# Altium footprint library 10132798-012100LF.PcbLib: 1 footprints
Each footprint in its own frame and in the unit in brackets; x right, y up, seen from the top. Pads: shape width x height; smd on the part's side, far side on the other; paste and mask are expansions set on the pad; w line width, h text height; cw(c..) or ccw(c..) is an arc to the next point about the centre after c.
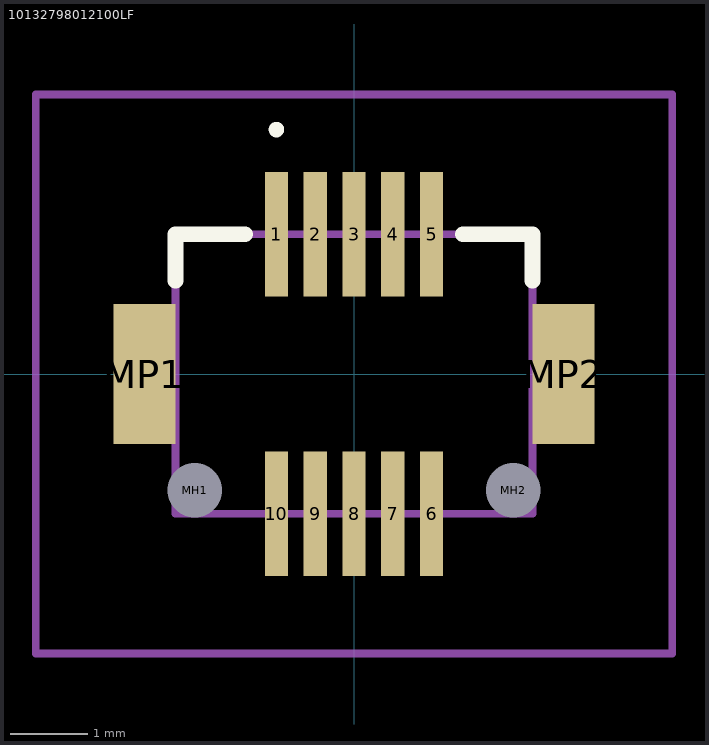
[diagram p0: the footprint, top view; thin cyan lines are the x and y axes]

## 10132798012100LF [mm]
pads (14):
  rect 0.3x1.6 smd mask+0.05: 1(-1,1.8) 2(-0.5,1.8) 3(0,1.8) 4(0.5,1.8) 5(1,1.8) 6(1,-1.8) 7(0.5,-1.8) 8(0,-1.8) 9(-0.5,-1.8) 10(-1,-1.8)
  round 0.35 hole 0.7 unplated: MH1(-2.05,-1.5) MH2(2.05,-1.5)
  rect 0.8x1.8 smd: MP1(-2.7,0) MP2(2.7,0)
Top Overlay:
  lines w0.1: -1,3.1 cw(c-1,3.15) -1,3.2 cw(c-1,3.15) -1,3.1
  lines w0.2: -2.3,1.2 -2.3,1.8 -1.4,1.8 ; 1.4,1.8 2.3,1.8 2.3,1.2
Mechanical 13:
  lines w0.1: -2.3,-1.8 2.3,-1.8 2.3,1.8 -2.3,1.8 -2.3,-1.8
Mechanical 15:
  lines w0.1: -4.1,-3.6 4.1,-3.6 4.1,3.6 -4.1,3.6 -4.1,-3.6
3D body "10132798-012100lf_asm.stp": height 2.7, standoff -0.5, extent -2.806,-2.286 2.794,2.313